# Altium schematic symbol library Resistors-2512.SchLib: 1 symbol
Pins are listed as number, name and electrical type; pins without a type are passive.

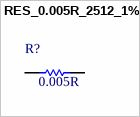
[diagram p0: symbol RES_0.005R_2512_1%]

## RES_0.005R_2512_1%
designator R?, comment value 0.005R  (hidden comment: 0.005R 1% 2512)
0.005R 2.5W 1% 2512 (6432 Metric); Manufacturer: Riedon; PartNumber: CSR2512B0R005F; Tolerance: 1%; Power: 2.5W; Mounting Technology: Surface Mount; PackageReference: 2512; PackageDescription: 2512 (6432 Metric); ComponentLink1Description: Datasheet; ComponentLink1URL: https://industrial.panasonic.com/cdbs/www-data/pdf/RDA0000/AOA0000C239.pdf
footprint R2512[6432] (Chip Resistor, Body 6.35x3.18mm)
pins: 1, 2